# EAGLE library part BMP390 (library CRD)
Sensor barométrico
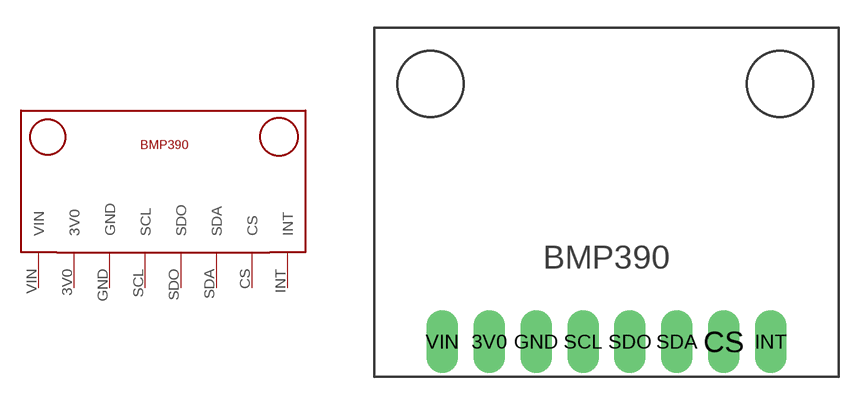
[diagram p11: symbol with the pads of BMP390_FOOTPRINT; footprint BMP390_FOOTPRINT]

Designator prefix -

## BMP390V1  [BMP390_FOOTPRINT]
3V0  3V0
CS  CS
GND  GND
INT  INT
SCL  SCL
SDA  SDA
SDO  SDO
VIN  VIN

## Footprint BMP390_FOOTPRINT (pad centres in mm)
drill 1.143 long: 3V0 -5.969,-8.382; CS 6.731,-8.382; GND -3.429,-8.382; INT 9.271,-8.382; SCL -0.889,-8.382; SDA 4.191,-8.382; SDO 1.651,-8.382; VIN -8.509,-8.382